# Altium schematic symbol library 3.5mm HPJ TC.SchLib: 1 symbol
Pins are listed as number, name and electrical type; pins without a type are passive.

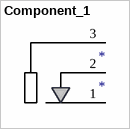
[diagram p0: symbol Component_1]

## Component_1
designator *
footprint 3.5Jack Foot
pins: 1 "ON/OFF", 2 "ON/OFF", 3 "ON/OFF"